# Altium integrated library 2987.IntLib: 1 symbol
Pins are listed as number, name and electrical type; pins without a type are passive.

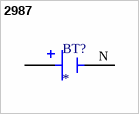
[diagram p0: symbol 2987]

## 2987
designator BT?
MP: 2987; Package: None; Price: None; Value: *; Availability: Unavailable
footprint BAT_2987
pins: N NEG, P1 POS, P2 POS